# Altium footprint library M.2 (NGFF).PcbLib: 1 footprints
Each footprint in its own frame and in the unit in brackets; x right, y up, seen from the top. Pads: shape width x height; smd on the part's side, far side on the other; paste and mask are expansions set on the pad; w line width, h text height; cw(c..) or ccw(c..) is an arc to the next point about the centre after c.
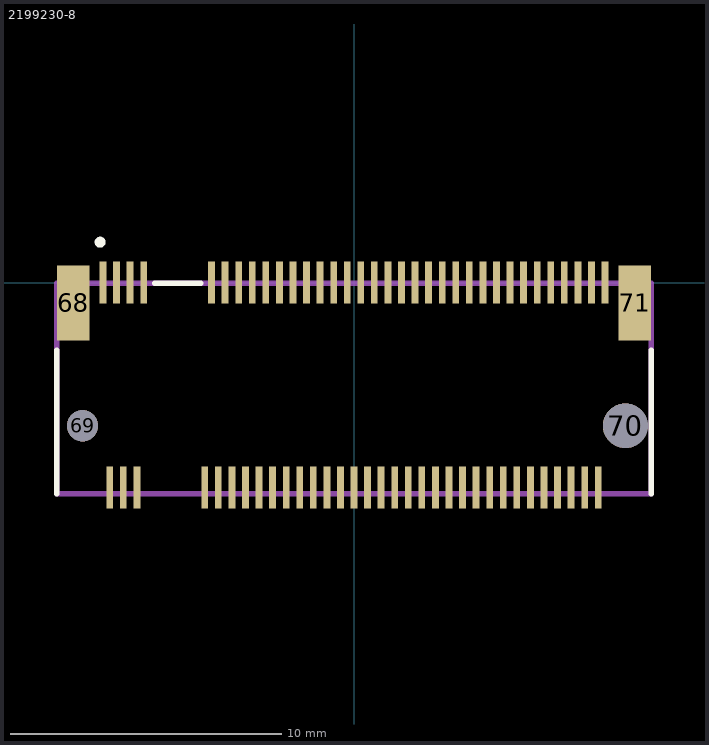
[diagram p0: the footprint, top view; thin cyan lines are the x and y axes]

## 2199230-8 [mm]
pads (71):
  rect 0.25x1.55 smd: 1(-9.25,0) 2(-9,-7.55) 3(-8.75,0) 4(-8.5,-7.55) 5(-8.25,0) 6(-8,-7.55) 7(-7.75,0) 8(-5.5,-7.55) 9(-5.25,0) 10(-5,-7.55) 11(-4.75,0) 12(-4.5,-7.55) 13(-4.25,0) 14(-4,-7.55) 15(-3.75,0) 16(-3.5,-7.55) 17(-3.25,0) 18(-3,-7.55) 19(-2.75,0) 20(-2.5,-7.55) 21(-2.25,0) 22(-2,-7.55) 23(-1.75,0) 24(-1.5,-7.55) 25(-1.25,0) 26(-1,-7.55) 27(-0.75,0) 28(-0.5,-7.55) 29(-0.25,0) 30(0,-7.55) 31(0.25,0) 32(0.5,-7.55) 33(0.75,0) 34(1,-7.55) 35(1.25,0) 36(1.5,-7.55) 37(1.75,0) 38(2,-7.55) 39(2.25,0) 40(2.5,-7.55) 41(2.75,0) 42(3,-7.55) 43(3.25,0) 44(3.5,-7.55) 45(3.75,0) 46(4,-7.55) 47(4.25,0) 48(4.5,-7.55) 49(4.75,0) 50(5,-7.55) 51(5.25,0) 52(5.5,-7.55) 53(5.75,0) 54(6,-7.55) 55(6.25,0) 56(6.5,-7.55) 57(6.75,0) 58(7,-7.55) 59(7.25,0) 60(7.5,-7.55) 61(7.75,0) 62(8,-7.55) 63(8.25,0) 64(8.5,-7.55) 65(8.75,0) 66(9,-7.55) 67(9.25,0)
  rect 1.2x2.75 smd: 68(-10.35,-0.75) 71(10.35,-0.75)
  round 1.15 hole 1.15 unplated: 69(-10,-5.275)
  round 1.65 hole 1.65 unplated: 70(10,-5.275)
Top Overlay:
  circle w0.2: c-9.357,1.492 r0.099
  lines w0.2: -10.95,-7.775 -10.95,-2.499 ; -7.35,-0.025 -5.65,-0.025 ; 10.95,-7.775 10.95,-2.499
Mechanical 13:
  lines w0.2: -10.95,-7.775 -10.95,-0.025 10.95,-0.025 10.95,-7.775 -10.95,-7.775